# Altium footprint library con-hirose-df13.PCBLIB: 58 footprints (part 2 of 4)
Each footprint in its own frame and in the unit in brackets; x right, y up, seen from the top. Pads: shape width x height; smd on the part's side, far side on the other; paste and mask are expansions set on the pad; w line width, h text height; cw(c..) or ccw(c..) is an arc to the next point about the centre after c.
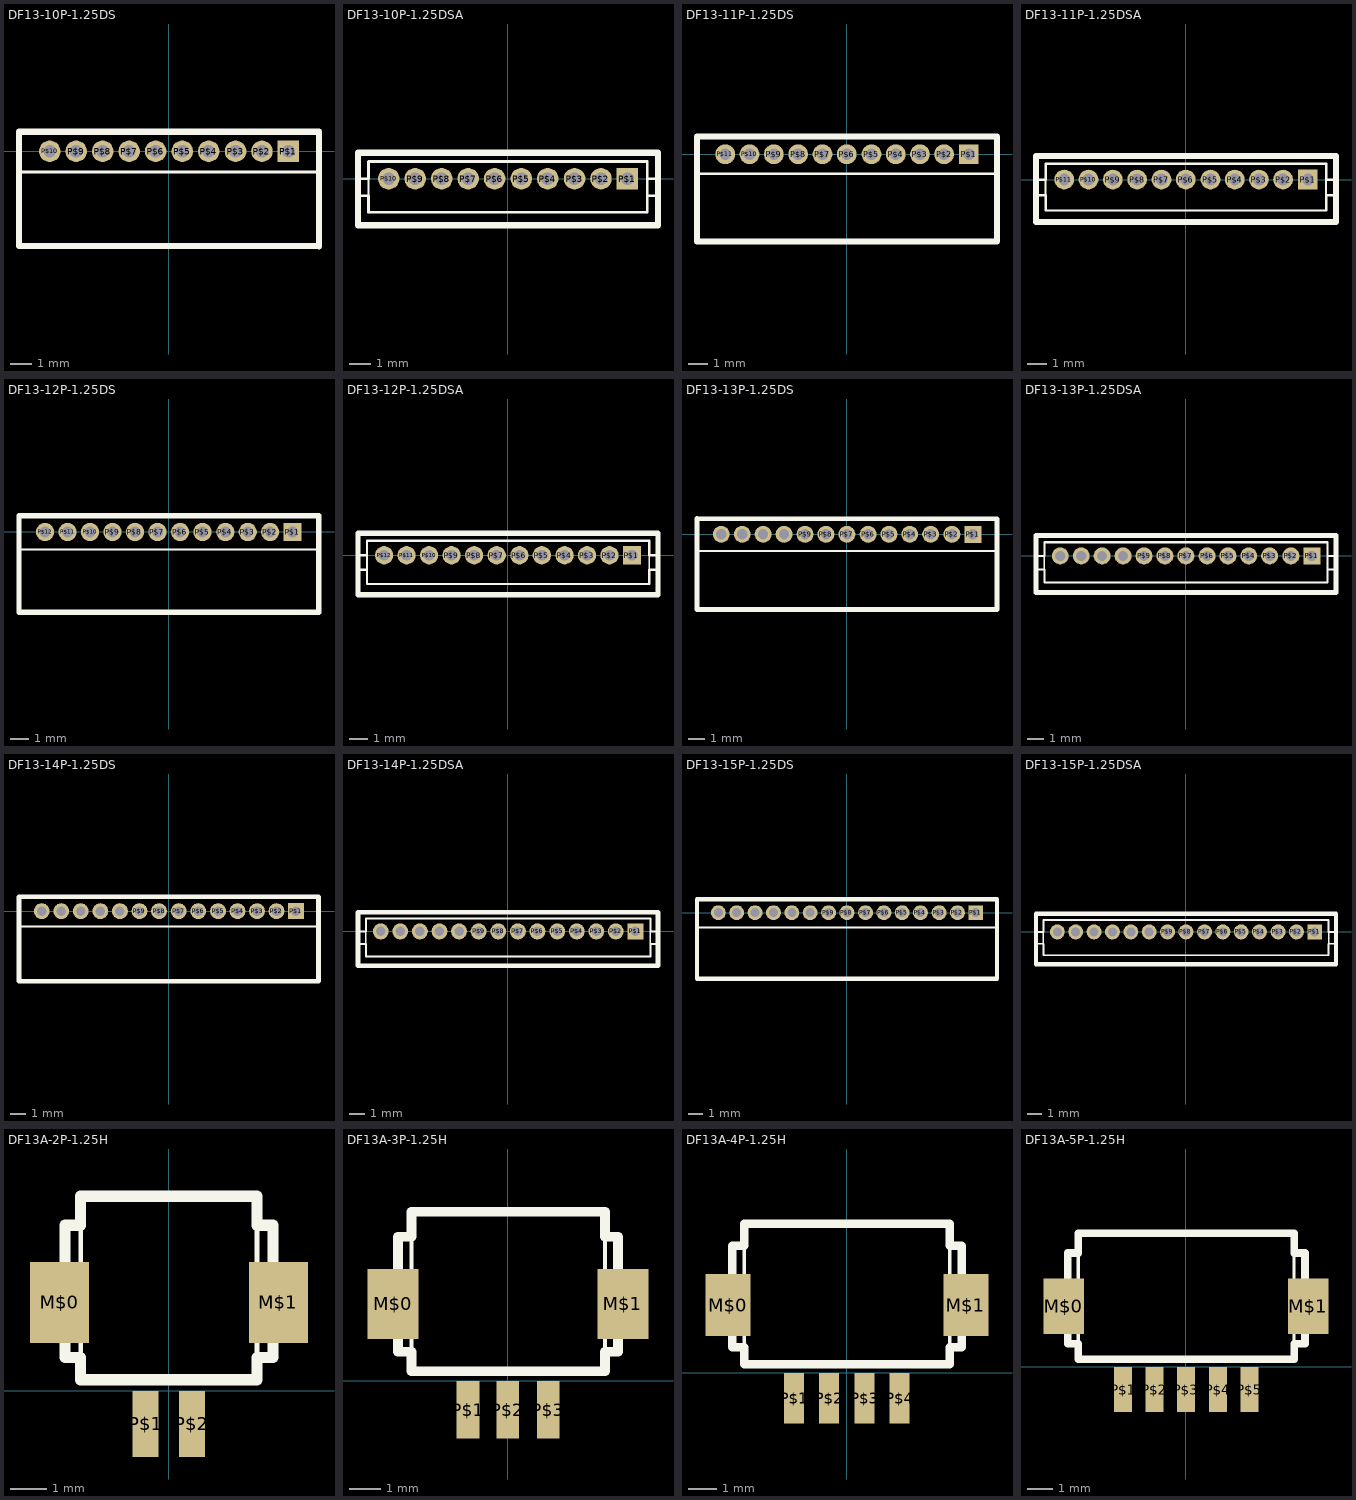
[diagram p1: the footprints below, top view; thin cyan lines are the x and y axes]

## DF13-10P-1.25DS [mil]
pads (10):
  rect 40x40 hole 24: P$1(222,0)
  round 40 hole 24: P$2(173,0) P$3(124,0) P$4(74,0) P$5(25,0) P$6(-24.61,0) P$7(-73.82,0) P$8(-123.03,0) P$9(-172.24,0) P$10(-221.46,0)
Top Overlay:
  lines w5: -278.54,-38.58 279,-38.58
  lines w12: -278.54,-86.22 -278.54,-38.58 ; -278.54,-31.89 -278.54,-38.58 ; -278.54,-38.58 -278.54,36 279,36 279,-176.18 -278.54,-175.98 -278.54,-38.58
Mechanical 2:
  text ">NAME" at -123.03,63 h77.5
Mechanical 4:
  text ">VALUE" at -123.03,-246.26 h77.5

## DF13-10P-1.25DSA [mil]
pads (10):
  rect 40x40 hole 24: P$1(222,0)
  round 40 hole 24: P$2(173,0) P$3(124,0) P$4(74,0) P$5(25,0) P$6(-24.61,0) P$7(-73.82,0) P$8(-123.03,0) P$9(-172.24,0) P$10(-221.46,0)
Top Overlay:
  lines w4: -258.86,-31.89 -258.86,0 ; 259,-31.89 259,0
  lines w5: -278.54,-31.89 -258.86,-31.89 -258.86,-62.6 259,-62.6 259,-31.89 279,-31.89 ; -278.54,0 -258.86,0 -258.86,32 259,32 259,0 279,0
  lines w12: -278.54,-86.22 279,-86.22 279,-31.89 279,0 279,48 -278.54,48 -278.54,0 -278.54,-31.89 -278.54,-86.22
Mechanical 2:
  text ">NAME" at -123.03,74 h77.5
Mechanical 4:
  text ">VALUE" at -123.03,-147.64 h77.5

## DF13-11P-1.25DS [mil]
pads (11):
  rect 40x40 hole 24: P$1(247,0)
  round 40 hole 24: P$2(197,0) P$3(148,0) P$4(99,0) P$5(50,0) P$6(0,0) P$7(-49.21,0) P$8(-98.43,0) P$9(-147.64,0) P$10(-196.85,0) P$11(-246.06,0)
Top Overlay:
  lines w5: -303.15,-39.37 304,-39.37
  lines w12: -303.15,-176.77 304,-176.77 304,-39.37 304,36 -303.15,36 -303.15,-39.37 -303.15,-176.77
Mechanical 2:
  text ">NAME" at -123.03,63 h77.5
Mechanical 4:
  text ">VALUE" at -123.03,-246.26 h77.5

## DF13-11P-1.25DSA [mil]
pads (11):
  rect 40x40 hole 24: P$1(247,0)
  round 40 hole 24: P$2(197,0) P$3(148,0) P$4(99,0) P$5(50,0) P$6(0,0) P$7(-49.21,0) P$8(-98.43,0) P$9(-147.64,0) P$10(-196.85,0) P$11(-246.06,0)
Top Overlay:
  lines w4: -283.46,-31.89 -283.46,0 ; 284,-31.89 284,0
  lines w5: -303.15,-31.89 -283.46,-31.89 -283.46,-62.6 284,-62.6 284,-31.89 304,-31.89 ; -303.15,0 -283.46,0 -283.46,32 284,32 284,0 304,0
  lines w12: -303.15,-86.22 304,-86.22 304,-31.89 304,0 304,48 -303.15,48 -303.15,0 -303.15,-31.89 -303.15,-86.22
Mechanical 2:
  text ">NAME" at -123.03,74 h77.5
Mechanical 4:
  text ">VALUE" at -123.03,-147.64 h77.5

## DF13-12P-1.25DS [mil]
pads (12):
  rect 40x40 hole 24: P$1(271,0)
  round 40 hole 24: P$2(222,0) P$3(173,0) P$4(124,0) P$5(74,0) P$6(25,0) P$7(-24.61,0) P$8(-73.82,0) P$9(-123.03,0) P$10(-172.24,0) P$11(-221.46,0) P$12(-270.67,0)
Top Overlay:
  lines w5: -327.76,-38.58 329,-38.58
  lines w12: -327.76,-86.22 -327.76,-38.58 ; -327.76,-31.89 -327.76,-38.58 ; -327.76,-38.58 -327.76,36 328,36 328,-176.18 -327.76,-175.98 -327.76,-38.58
Mechanical 2:
  text ">NAME" at -123.03,63 h77.5
Mechanical 4:
  text ">VALUE" at -123.03,-246.26 h77.5

## DF13-12P-1.25DSA [mil]
pads (12):
  rect 40x40 hole 24: P$1(271,0)
  round 40 hole 24: P$2(222,0) P$3(173,0) P$4(124,0) P$5(74,0) P$6(25,0) P$7(-24.61,0) P$8(-73.82,0) P$9(-123.03,0) P$10(-172.24,0) P$11(-221.46,0) P$12(-270.67,0)
Top Overlay:
  lines w4: -308.07,-31.89 -308.07,0 ; 309,-31.89 309,0
  lines w5: -327.76,-31.89 -308.07,-31.89 -308.07,-62.6 309,-62.6 309,-31.89 328,-31.89 ; -327.76,0 -308.07,0 -308.07,32 309,32 309,0 328,0
  lines w12: -327.76,-86.22 328,-86.22 328,-31.89 328,0 328,48 -327.76,48 -327.76,0 -327.76,-31.89 -327.76,-86.22
Mechanical 2:
  text ">NAME" at -123.03,74 h77.5
Mechanical 4:
  text ">VALUE" at -123.03,-147.64 h77.5

## DF13-13P-1.25DS [mil]
pads (13):
  rect 40x40 hole 24: P$1(296,0)
  round 40 hole 24: P$2(247,0) P$3(197,0) P$4(148,0) P$5(99,0) P$6(50,0) P$7(0,0) P$8(-49.21,0) P$9(-98.43,0) P$10(-147.64,0) P$11(-196.85,0) P$12(-246.06,0) P$13(-295.28,0)
Top Overlay:
  lines w5: -352.36,-39.17 353,-39.37
  lines w12: -352.36,-176.57 353,-176.77 353,-39.37 353,36 -352.36,37 -352.36,-39.17 -352.36,-176.57
Mechanical 2:
  text ">NAME" at -123.03,63 h77.5
Mechanical 4:
  text ">VALUE" at -123.03,-246.26 h77.5

## DF13-13P-1.25DSA [mil]
pads (13):
  rect 40x40 hole 24: P$1(296,0)
  round 40 hole 24: P$2(247,0) P$3(197,0) P$4(148,0) P$5(99,0) P$6(50,0) P$7(0,0) P$8(-49.21,0) P$9(-98.43,0) P$10(-147.64,0) P$11(-196.85,0) P$12(-246.06,0) P$13(-295.28,0)
Top Overlay:
  lines w4: -332.68,-31.89 -332.68,0 ; 333,-31.89 333,0
  lines w5: -352.36,-31.89 -332.68,-31.89 -332.68,-62.6 333,-62.6 333,-31.89 353,-31.89 ; -352.36,0 -332.68,0 -332.68,32 333,32 333,0 353,0
  lines w12: -352.36,-86.22 353,-86.22 353,-31.89 353,0 353,48 -352.36,48 -352.36,0 -352.36,-31.89 -352.36,-86.22
Mechanical 2:
  text ">NAME" at -123.03,74 h77.5
Mechanical 4:
  text ">VALUE" at -123.03,-147.64 h77.5

## DF13-14P-1.25DS [mil]
pads (14):
  rect 40x40 hole 24: P$1(320,0)
  round 40 hole 24: P$2(271,0) P$3(222,0) P$4(173,0) P$5(124,0) P$6(74,0) P$7(25,0) P$8(-24.61,0) P$9(-73.82,0) P$10(-123.03,0) P$11(-172.24,0) P$12(-221.46,0) P$13(-270.67,0) P$14(-319.88,0)
Top Overlay:
  lines w5: -376.97,-38.58 378,-38.58
  lines w12: -376.97,-86.22 -376.97,-38.58 ; -376.97,-31.89 -376.97,-38.58 ; -376.97,-38.58 -376.97,36 377,36 377,-176.18 -376.97,-175.98 -376.97,-38.58
Mechanical 2:
  text ">NAME" at -123.03,63 h77.5
Mechanical 4:
  text ">VALUE" at -123.03,-246.26 h77.5

## DF13-14P-1.25DSA [mil]
pads (14):
  rect 40x40 hole 24: P$1(320,0)
  round 40 hole 24: P$2(271,0) P$3(222,0) P$4(173,0) P$5(124,0) P$6(74,0) P$7(25,0) P$8(-24.61,0) P$9(-73.82,0) P$10(-123.03,0) P$11(-172.24,0) P$12(-221.46,0) P$13(-270.67,0) P$14(-319.88,0)
Top Overlay:
  lines w4: -357.28,-31.89 -357.28,0 ; 358,-31.89 358,0
  lines w5: -376.97,-31.89 -357.28,-31.89 -357.28,-62.6 358,-62.6 358,-31.89 377,-31.89 ; -376.97,0 -357.28,0 -357.28,32 358,32 358,0 377,0
  lines w12: -376.97,-86.22 377,-86.22 377,-31.89 377,0 377,48 -376.97,48 -376.97,0 -376.97,-31.89 -376.97,-86.22
Mechanical 2:
  text ">NAME" at -123.03,74 h77.5
Mechanical 4:
  text ">VALUE" at -123.03,-147.64 h77.5

## DF13-15P-1.25DS [mil]
pads (15):
  rect 40x40 hole 24: P$1(345,0)
  round 40 hole 24: P$2(296,0) P$3(247,0) P$4(197,0) P$5(148,0) P$6(99,0) P$7(50,0) P$8(0,0) P$9(-49.21,0) P$10(-98.43,0) P$11(-147.64,0) P$12(-196.85,0) P$13(-246.06,0) P$14(-295.28,0) P$15(-344.49,0)
Top Overlay:
  lines w5: -401.57,-39.37 402,-39.37
  lines w12: -401.57,-176.77 402,-176.77 402,-39.37 402,36 -401.57,36 -401.57,-39.37 -401.57,-176.77
Mechanical 2:
  text ">NAME" at -123.03,63 h77.5
Mechanical 4:
  text ">VALUE" at -123.03,-246.26 h77.5

## DF13-15P-1.25DSA [mil]
pads (15):
  rect 40x40 hole 24: P$1(345,0)
  round 40 hole 24: P$2(296,0) P$3(247,0) P$4(197,0) P$5(148,0) P$6(99,0) P$7(50,0) P$8(0,0) P$9(-49.21,0) P$10(-98.43,0) P$11(-147.64,0) P$12(-196.85,0) P$13(-246.06,0) P$14(-295.28,0) P$15(-344.49,0)
Top Overlay:
  lines w4: -381.89,-31.89 -381.89,0 ; 382,-31.89 382,0
  lines w5: -401.57,-31.89 -381.89,-31.89 -381.89,-62.6 382,-62.6 382,-31.89 402,-31.89 ; -401.57,0 -381.89,0 -381.89,32 382,32 382,0 402,0
  lines w12: -401.57,-86.22 402,-86.22 402,-31.89 402,0 402,48 -401.57,48 -401.57,0 -401.57,-31.89 -401.57,-86.22
Mechanical 2:
  text ">NAME" at -123.03,74 h77.5
Mechanical 4:
  text ">VALUE" at -123.03,-147.83 h77.5

## DF13A-2P-1.25H [mil]
pads (4):
  rect 63x87 smd: M$0(-117.13,95) M$1(118,95)
  rect 28x71 smd: P$1(-24.61,-35.43) P$2(25,-35.43)
Top Overlay:
  lines w5: -94.49,36 -94.49,178 ; 95,36 95,178
  lines w12: -111.22,36 -111.22,178 -94.49,178 -94.49,209 95,209 95,178 112,178 112,36 95,36 95,12 -94.49,12 -94.49,36 -111.22,36
  text "." at -86.61,-73.82 h155

## DF13A-3P-1.25H [mil]
pads (5):
  rect 63x87 smd: M$0(-141.73,95) M$1(142,95)
  rect 28x71 smd: P$1(-49.21,-35.43) P$2(0,-35.43) P$3(50,-35.43)
Top Overlay:
  lines w5: -119.09,36 -119.09,178 ; 120,36 120,178
  lines w12: -135.83,36 -135.83,178 -119.09,178 -119.09,209 120,209 120,178 136,178 136,36 120,36 120,12 -119.09,12 -119.09,36 -135.83,36
  text "." at -111.22,-73.82 h155

## DF13A-4P-1.25H [mil]
pads (6):
  rect 63x87 smd: M$0(-166.34,95) M$1(167,95)
  rect 28x71 smd: P$1(-73.82,-35.43) P$2(-24.61,-35.43) P$3(25,-35.43) P$4(74,-35.43)
Top Overlay:
  lines w5: -143.7,36 -143.7,178 ; 144,36 144,178
  lines w12: -160.43,36 -160.43,178 -143.7,178 -143.7,209 144,209 144,178 161,178 161,36 144,36 144,12 -143.7,12 -143.7,36 -160.43,36
  text "." at -135.83,-73.82 h155

## DF13A-5P-1.25H [mil]
pads (7):
  rect 63x87 smd: M$0(-190.94,95) M$1(191,95)
  rect 28x71 smd: P$1(-98.43,-35.43) P$2(-49.21,-35.43) P$3(0,-35.43) P$4(50,-35.43) P$5(99,-35.43)
Top Overlay:
  lines w5: -168.31,36 -168.31,178 ; 169,36 169,178
  lines w12: -185.04,36 -185.04,178 -168.31,178 -168.31,209 169,209 169,178 186,178 186,36 169,36 169,12 -168.31,12 -168.31,36 -185.04,36
  text "." at -160.43,-73.82 h155